# Altium schematic symbol library HT_SHUIHU.SchLib: 2 symbols
Pins are listed as number, name and electrical type; pins without a type are passive.

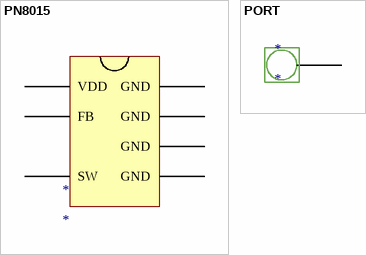
[diagram p0: symbols PN8015 to PORT]

## PN8015
designator *
pins: 1 VDD, 2 FB, 3 SW, 4 GND, 5 GND, 6 GND, 7 GND

## PORT
designator *
pins: 1 P